# EAGLE library part 61002621121 (library Eagle_BOARD-TO-BOARD_CONNECTORS (rev18b))
WR-PHD 2.54mm Dual SMT Pin Header, 26 Pins =>Code : Con_BTB_PHD_2.54_2_61002621121 <http://katalog.we-online.de/media/images/eican/Con_BTB_PHD_2.54_2_6100xx21121_pf2.jpg> Details see: http://katalog.we-online.de/en/em/610_0xx_211_21 Created 2014-05-29, Karrer Zheng 2014 (C) Würth Elektronik
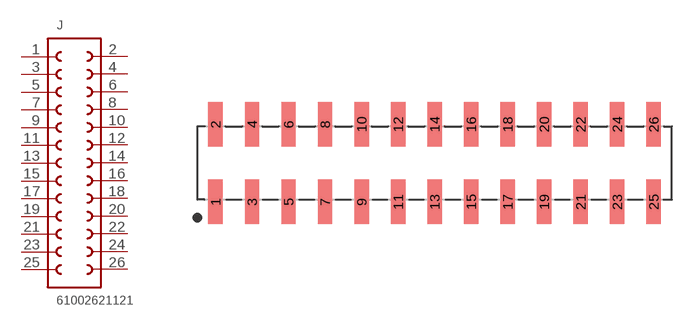
[diagram p83: symbol with the pads of 61002621121; footprint 61002621121]

Designator prefix J

## 61002621121  [61002621121]
1  1  pas
2  26  pas
3  2  pas
4  25  pas
5  3  pas
6  24  pas
7  4  pas
8  23  pas
9  5  pas
10  22  pas
11  6  pas
12  21  pas
13  7  pas
14  20  pas
15  8  pas
16  19  pas
17  9  pas
18  18  pas
19  10  pas
20  17  pas
21  11  pas
22  16  pas
23  12  pas
24  15  pas
25  13  pas
26  14  pas

## Footprint 61002621121 (pad centres in mm)
WR-PHD 2.54mm Dual SMT Pin Header, 26 Pins
smd 1 x 3.1: 1 -15.24,-2.7; 2 -15.24,2.7; 3 -12.7,-2.7; 4 -12.7,2.7; 5 -10.16,-2.7; 6 -10.16,2.7; 7 -7.62,-2.7; 8 -7.62,2.7; 9 -5.08,-2.7; 10 -5.08,2.7; 11 -2.54,-2.7; 12 -2.54,2.7; 13 0,-2.7; 14 0,2.7; 15 2.54,-2.7; 16 2.54,2.7; 17 5.08,-2.7; 18 5.08,2.7; 19 7.62,-2.7; 20 7.62,2.7; 21 10.16,-2.7; 22 10.16,2.7; 23 12.7,-2.7; 24 12.7,2.7; 25 15.24,-2.7; 26 15.24,2.7